# Altium schematic symbol library Resistors.SchLib: 31 symbols
Pins are listed as number, name and electrical type; pins without a type are passive.

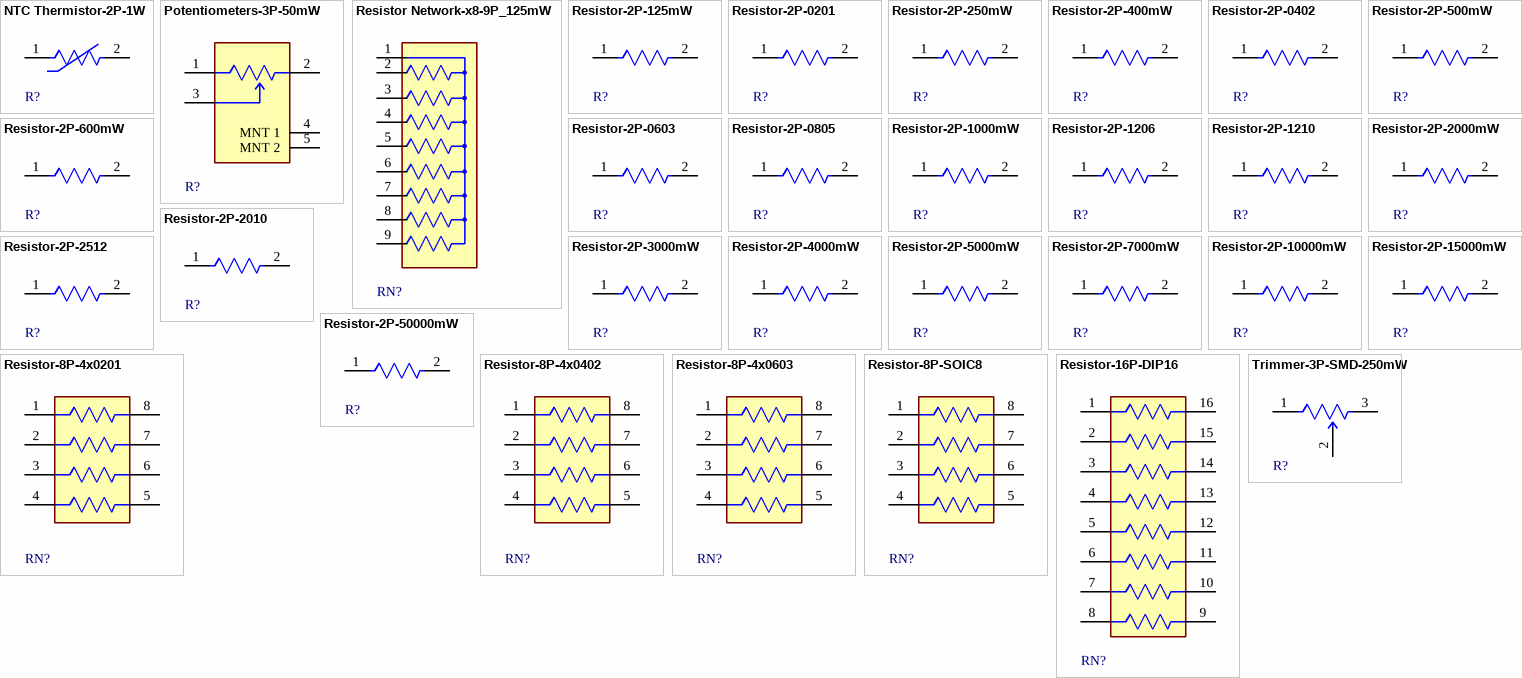
[diagram p0: symbols NTC Thermistor-2P-1W to Trimmer-3P-SMD-250mW]

## NTC Thermistor-2P-1W
designator R?
footprint NTC_Thermistor_7.37mm
pins: 1, 2

## Potentiometers-3P-50mW
designator R?
pins: 1, 2, 3, 4 MNT 1, 5 MNT 2

## Resistor Network-x8-9P_125mW
designator RN?
pins: 1, 2, 3, 4, 5, 6, 7, 8, 9

## Resistor-2P-125mW
designator R?
footprint Resistor_Axial_11mm_125mW
pins: 1, 2

## Resistor-2P-0201
designator R?
footprint Resistor_0201-MFG
footprint Resistor_0201-A
footprint Resistor_0201-B
footprint Resistor_0201-C
pins: 1, 2

## Resistor-2P-250mW
designator R?
footprint Resistor_Axial_11mm_250mW
pins: 1, 2

## Resistor-2P-400mW
designator R?
footprint Resistor_Axial_5mm_400mW
pins: 1, 2

## Resistor-2P-0402
designator R?
footprint Resistor_0402-A
footprint Resistor_0402-B
footprint Resistor_0402-C
footprint Resistor_0402-MFG
pins: 1, 2

## Resistor-2P-500mW
designator R?
footprint Resistor_Axial_15.46mm_500mW
pins: 1, 2

## Resistor-2P-600mW
designator R?
footprint Resistor_Axial_10mm_600mW
pins: 1, 2

## Resistor-2P-0603
designator R?
footprint Resistor_0603-A
footprint Resistor_0603-B
footprint Resistor_0603-C
footprint Resistor_0603-MFG
pins: 1, 2

## Resistor-2P-0805
designator R?
footprint Resistor_0805-A
footprint Resistor_0805-B
footprint Resistor_0805-C
footprint Resistor_0805-MFG
pins: 1, 2

## Resistor-2P-1000mW
designator R?
footprint Resistor_Axial_17.8mm_1W
pins: 1, 2

## Resistor-2P-1206
designator R?
footprint Resistor_1206-A
footprint Resistor_1206-B
footprint Resistor_1206-C
footprint Resistor_1206-MFG
pins: 1, 2

## Resistor-2P-1210
designator R?
footprint Resistor_1210-A
footprint Resistor_1210-B
footprint Resistor_1210-C
footprint Resistor_1210-MFG
pins: 1, 2

## Resistor-2P-2000mW
designator R?
footprint Resistor_Axial_15.66mm_2W
pins: 1, 2

## Resistor-2P-2010
designator R?
footprint Resistor_2010-A
footprint Resistor_2010-B
footprint Resistor_2010-C
footprint Resistor_2010-MFG
pins: 1, 2

## Resistor-2P-2512
designator R?
footprint Resistor_2512-A
footprint Resistor_2512-B
footprint Resistor_2512-C
footprint Resistor_2512-MFG
pins: 1, 2

## Resistor-2P-3000mW
designator R?
footprint Resistor_Axial_21.5mm_3W
pins: 1, 2

## Resistor-2P-4000mW
designator R?
footprint Resistor_Axial_31.586mm_4W
pins: 1, 2

## Resistor-2P-5000mW
designator R?
footprint Resistor_Axial_31.586mm_5W
pins: 1, 2

## Resistor-2P-7000mW
designator R?
footprint Resistor_Axial_31.586mm_7W
pins: 1, 2

## Resistor-2P-10000mW
designator R?
footprint Resistor_Axial_51.689mm_10W
pins: 1, 2

## Resistor-2P-15000mW
designator R?
footprint Resistor_Axial_54.776mm_15W
pins: 1, 2

## Resistor-2P-50000mW
designator R?
footprint Resistor 50W
pins: 1, 2

## Resistor-8P-4x0201
designator RN?
footprint Resistor_4x0201
pins: 1, 2, 3, 4, 5, 6, 7, 8

## Resistor-8P-4x0402
designator RN?
footprint Resistor_4x0402
pins: 1, 2, 3, 4, 5, 6, 7, 8

## Resistor-8P-4x0603
designator RN?
footprint Resistor_4x0603
pins: 1, 2, 3, 4, 5, 6, 7, 8

## Resistor-8P-SOIC8
designator RN?
footprint Resistor_SOIC8-A
footprint Resistor_SOIC8-B
footprint Resistor_SOIC8-C
footprint Resistor_SOIC8-MFG
pins: 1, 2, 3, 4, 5, 6, 7, 8

## Resistor-16P-DIP16
designator RN?
footprint Resistor_DIP16
pins: 1, 2, 3, 4, 5, 6, 7, 8, 9, 10, 11, 12, 13, 14, 15, 16

## Trimmer-3P-SMD-250mW
designator R?
footprint Trimmer_SMD_250mW
footprint Trimmer_Radial_64x4x77_250mW
pins: 1 a, 2 b, 3 c